# Altium schematic symbol library RT1206BRD07400RL.SchLib: 1 symbol
Pins are listed as number, name and electrical type; pins without a type are passive.

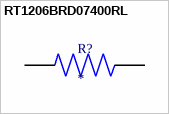
[diagram p0: symbol RT1206BRD07400RL]

## RT1206BRD07400RL
designator R?
400 Ohms Â±0.1% 0.25W, 1/4W Chip Resistor 1206 (3216 Metric) - Thin Film; MF: Yageo; MP: RT1206BRD07400RL; SnapEDA_Link: https://www.snapeda.com/parts/RT1206BRD07400RL/Yageo/view-part/?ref=snap; Package: 3116 Yageo; Value: *; Check_prices: https://www.snapeda.com/parts/RT1206BRD07400RL/Yageo/view-part/?ref=eda
footprint RESC3116X65N
pins: 1, 2